# Altium integrated library Wings_SMD_Breakout.IntLib: 30 symbols
Pins are listed as number, name and electrical type; pins without a type are passive.

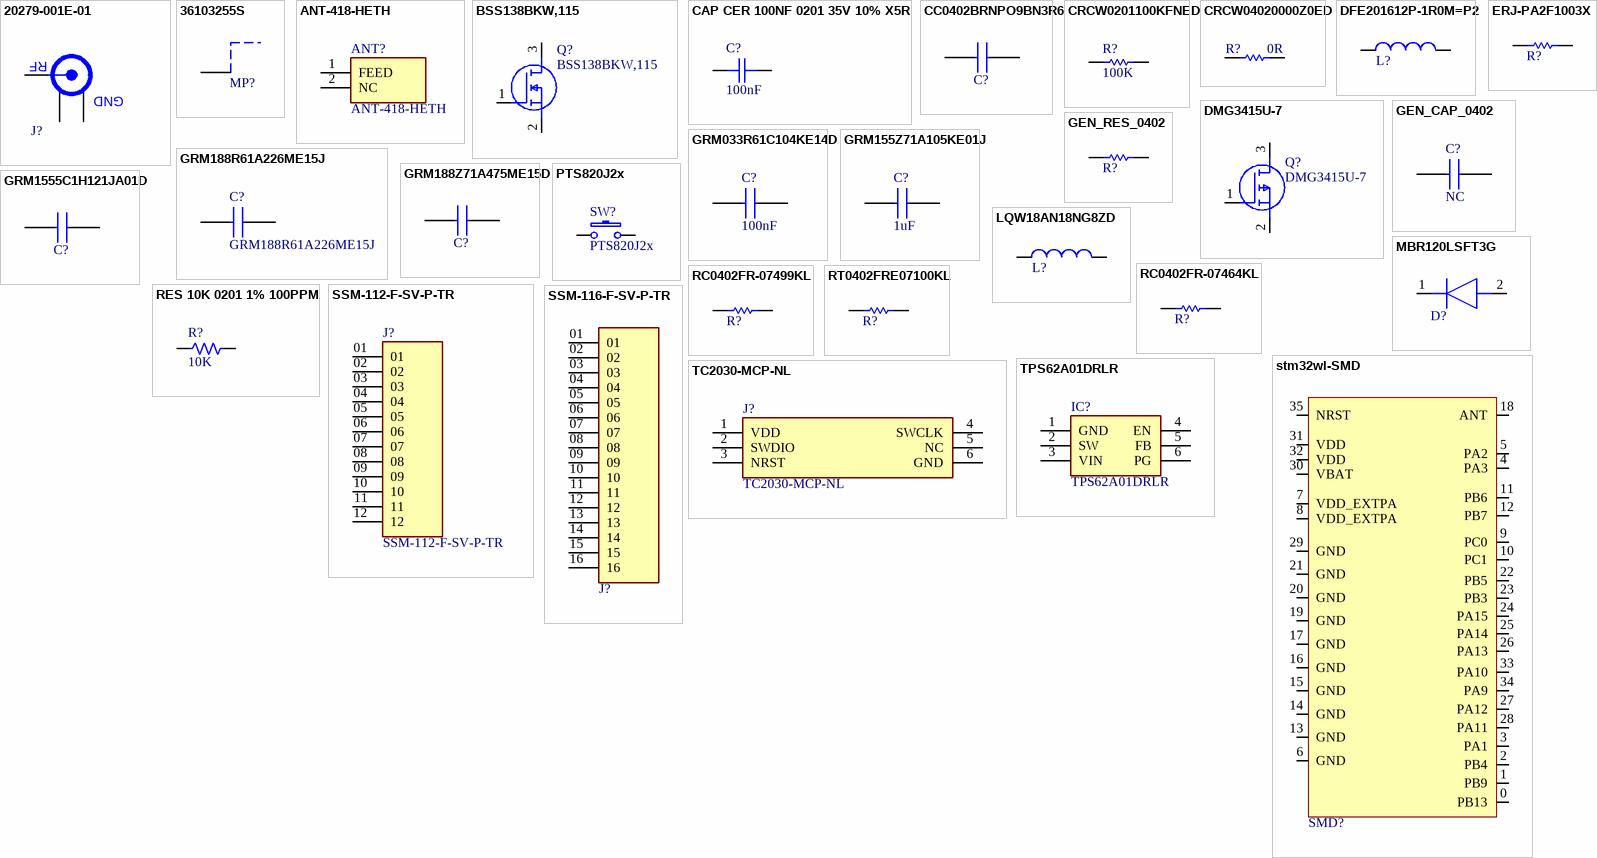
[diagram p0: symbols 20279-001E-01 to TPS62A01DRLR]

## 20279-001E-01
designator J?  (value not drawn)
CON IPEX MHF SMT RECEPTACLE RF DC - 6GHZ VSWR: 1.3 max. at 0.1-3GHz; VSWR: 1.5 max. at 3-6GHz; Manufacturer: Taoglas; Manufacturers Part Number: RECE-20279-001E-01; Size: MHF; Frequency Range: DC - 6GHz; Supplier 1: Digi-Key; Supplier 2: Mouser; Supplier Part Number 1: 931-1107-1-ND; Supplier Part Number 2: 960-RECE20279001E01; Distributor 1: EBV; Distributor 2: Future Electronics
footprint MHF SMT REC
pins: 1 RF, 2 GND, 3 GND

## 36103255S
designator MP?  (value not drawn)
WE-SHC Shielding Cabinet, SMT Frame, Tin Plated, Tray, 25x25x3mm; Manufacturer: Wurth Elektronik; Base Material: Steel; ComponentLink1Description: Website Link; ComponentLink1URL: https://www.we-online.com/redexpert/article/36103255S?ad; ComponentLink2Description: Datasheet Link; ComponentLink2URL: https://www.we-online.com/redexpert/spec/36103255S?ad; Manufacturer Part Number: 36103255S; Category: EMC Shielding; Match Code: WE-SHC; Mount: Surface Mount; Operating Temperature Max: 125°C; Operating Temperature Min: -40°C; Packaging: Tray; Length: 25mm; Width: 25mm; Height: 3mm; Plating: Tin Plated; Type: SMT Frame
footprint 36103255S (Shielding Cabinet, SMD Frame, 25.4x25.4mm)
pins: 1

## ANT-418-HETH
designator ANT?
Antennes Through Hole 1/4 Wave Helical 418MHz; Manufacturer_Name: Linx Technologies; Datasheet Link: https://componentsearchengine.com/Datasheets/1/ANT-418-HETH.pdf; Height: 8.89mm; Manufacturer_Part_Number: ANT-418-HETH; Mouser Part Number: 712-ANT-418-HETH; Mouser Price/Stock: https://www.mouser.co.uk/ProductDetail/Linx-Technologies/ANT-418-HETH?qs=K5ta8V%252BWhtaRiLxNTMG67g%3D%3D
footprint ANT418HETH
pins: 1 FEED, 2 NC

## BSS138BKW,115
designator Q?
MOSFET (N-Channel); Manufacturer_Name: Nexperia; Datasheet Link: https://assets.nexperia.com/documents/data-sheet/BSS138BKW.pdf; Height: 1.1mm; Manufacturer_Part_Number: BSS138BKW,115; Mouser Part Number: 771-BSS138BKW115; Mouser Price/Stock: https://www.mouser.co.uk/ProductDetail/Nexperia/BSS138BKW115?qs=A1cBxND5mHJ1Grk7RQmcgg%3D%3D; Arrow Part Number: BSS138BKW,115; Arrow Price/Stock: https://www.arrow.com/en/products/bss138bkw115/nexperia?region=nac
footprint SOT65P210X110-3N
pins: 1 G, 2 S, 3 D

## CAP CER 100NF 0201 35V 10% X5R
designator C?, comment value 100nF  (hidden comment: 100NF 0201 35V 10% X5R)
CAP CER 100NF 0201 35V 10% X5R; Manufacturer: Murata; Manufacturers Part Number: GRM033R6YA104KE14D; Tolerance: 10%; Size: 0201; Dielectric: X5R; Supplier 1: Mouser; Supplier 2: Digi-Key; Supplier Part Number 1: 81-GRM33R6YA104KE14D; Supplier Part Number 2: 490-10430-1-ND
footprint CAP0201L
pins: 1 "Generic Resistor", 2 "Generic Resistor"

## CC0402BRNPO9BN3R6
designator C?  (value not drawn)
Multilayer Ceramic Capacitors MLCC - SMD/SMT 50 V 3.6pF C0G 0402 Tol 0.1pF; Manufacturer_Name: KEMET; Datasheet Link: https://www.yageo.com/upload/media/product/productsearch/datasheet/mlcc/UPY-GP_NP0_16V-to-50V_18.pdf; Height: 0.55mm; Manufacturer_Part_Number: CC0402BRNPO9BN3R6; Mouser Part Number: 603-CC402BRNPO9BN3R6; Mouser Price/Stock: https://www.mouser.co.uk/ProductDetail/Yageo/CC0402BRNPO9BN3R6?qs=57cj7OiSijl%2FHGuB4N4%2Few%3D%3D; Arrow Part Number: CC0402BRNPO9BN3R6; Arrow Price/Stock: https://www.arrow.com/en/products/cc0402brnpo9bn3r6/yageo
footprint CAPC1005X55N
pins: 1, 2

## CRCW0201100KFNED
designator R?, comment 100K
Resistors Thick Film  - SMD 1/20watt 100Kohms 1% 200ppm; Manufacturer_Name: Vishay; Manufacturer_Part_Number: CRCW0201100KFNED; Value: 100KR; Datasheet Link: http://www.vishay.com/docs/20035/dcrcwe3.pdf; Height: 0.28mm; Mouser Part Number: 71-CRCW0201100KFNED; Mouser Price/Stock: https://www.mouser.co.uk/ProductDetail/Vishay-Dale/CRCW0201100KFNED?qs=IQLUlsvFoXuZOEgCEo70BA%3D%3D; Arrow Part Number: CRCW0201100KFNED; Arrow Price/Stock: https://www.arrow.com/en/products/crcw0201100kfned/vishay?region=nac
footprint RESC0603X28N
pins: 1, 2

## CRCW04020000Z0ED
designator R?, comment 0R
Resistors Thick Film  - SMD 0402 0.063 W 0 Ohm Jumper; Manufacturer 1: Vishay; Manufacturer Part Number 1: CRCW04020000Z0ED; Description 1: CRCW Series 0402 0.063 W 0 Ohm Jumper Surface Mount Thick Film Chip Resistor; Category 1: Chip SMD Resistors; Resistance: 0mR; Power Rating: 63mW; Voltage Rating: 50V; Temperature Coefficient: 100ppm/°C; Tolerance: 5%; Supplier 1: Digi-Key; Supplier Part Number 1: 541-0.0JCT-ND; RoHS 1: Yes; Stock 1: 170588; Pricing 1: 1=0,1, 10=0,029, 25=0,0208, 50=0,016, 100=0,0118, 250=0,009, 500=0,0072, 1000=0,0053, 5000=0,0038 (USD); Case/Package: 0402; Case Code (Imperial): 0402; Case Code (Metric): 1005; Contact Plating: Tin; Size Code: 0402; Weight: 2.3E-05oz; Min Operating Temperature: -55°C; Max Operating Temperature: 155°C; Packaging: Tape and Reel; Series: CRCW; Number of Terminations: 2; Max Power Dissipation: 63mW; Termination: SMD/SMT; Package Quantity: 10000; Resistor Type: Thick Film; Voltage Rating (DC): 50V; Features: Automotive AEC-Q200; Construction: Rectangular; Length: 1mm; Width: 0.5mm; Height: 0.35mm; Depth: 0.5mm; Ratings: AEC-Q200; Radiation Hardening: No; RoHS Compliant: Yes; Lead Free: Lead Free; Reach SVHC Compliant: Unknown; Military Standard: Not; ComponentLink1URL: https://datasheet.ciiva.com/3255/dcrcwe3-3255944.pdf?src-supplier=Avnet; ComponentLink1Description: https://datasheet.ciiva.com/3255/dcrcwe3-3255944.pdf?src-supplier=Avnet; ComponentLink2URL: https://datasheet.ciiva.com/3255/dcrcwe3-3255945.pdf?src-supplier=Avnet; ComponentLink2Description: https://datasheet.ciiva.com/3255/dcrcwe3-3255945.pdf?src-supplier=Avnet; ComponentLink3URL: https://datasheet.ciiva.com/2461/dcrcwe3-2461962.pdf?src-supplier=Digi-Key; ComponentLink3Description: https://datasheet.ciiva.com/2461/dcrcwe3-2461962.pdf?src-supplier=Digi-Key; ComponentLink4URL: https://datasheet.ciiva.com/7841/1720486-7841802.pdf?src-supplier=Element14; ComponentLink4Description: https://datasheet.ciiva.com/7841/1720486-7841802.pdf?src-supplier=Element14; ComponentLink5URL: https://datasheet.ciiva.com/2461/dcrcwe3-2461964.pdf?src-supplier=Digi-Key; ComponentLink5Description: https://datasheet.ciiva.com/2461/dcrcwe3-2461964.pdf?src-supplier=Digi-Key; ComponentLink6URL: https://datasheet.ciiva.com/7841/1697337-7841468.pdf?src-supplier=Element14; ComponentLink6Description: https://datasheet.ciiva.com/7841/1697337-7841468.pdf?src-supplier=Element14; ComponentLink7URL: https://datasheet.ciiva.com/16761/70200976-16761309.pdf?src-supplier=Allied+Electronics; ComponentLink7Description: https://datasheet.ciiva.com/16761/70200976-16761309.pdf?src-supplier=Allied+Electronics; ComponentLink8URL: https://datasheet.ciiva.com/26311/fld-crcw-e3-data-en-26311550.pdf?src-supplier=Distrelec; ComponentLink8Description: https://datasheet.ciiva.com/26311/fld-crcw-e3-data-en-26311550.pdf?src-supplier=Distrelec
footprint RESC1005X40N
pins: 1, 2

## DFE201612P-1R0M=P2
designator L?  (value not drawn)
Inductor Power Shielded Wirewound 1uH 20% 1MHz Metal 2.7A 0.054Ohm DCR 0806 T/R; Manufacturer: Murata; Core Material: Ferrite; Current Rating: 3.3A; DC Resistance (DCR): 54mR; Supplier 1: Arrow Electronics; Manufacturer Part Number: DFE201612P-1R0M=P2; RoHS: Yes; Category: Fixed Inductors; Stock 1: 437; Pricing 1: 1=0,3131, 10=0,2081, 25=0,206, 100=0,1586, 250=0,1571 (USD); Mount: Surface Mount; Case/Package: 0806; Case Code (Metric): 2016; Case Code (Imperial): 0806; Min Operating Temperature: -40°C; Max Operating Temperature: 125°C; Inductance: 1uH; Packaging: Cut Tape; Shielding: Shielded; Test Frequency: 1MHz; Max DC Current: 2.7A; Tolerance: 20%; Series: DFE201612P; Length: 0.079inch; Width: 0.063inch; Height - Seated (Max): 0.039inch; Depth: 1.6mm; RoHS Compliant: Yes; ComponentLink1URL: https://search.murata.co.jp/Ceramy/image/img/P02/J(E)TE243A-0033.pdf?src-supplier=Digi-Key; ComponentLink1Description: https://search.murata.co.jp/Ceramy/image/img/P02/J(E)TE243A-0033.pdf?src-supplier=Digi-Key; ComponentLink2URL: http://www.toko.co.jp/products/pdf/inductors/dfe201612p.pdf?src-supplier=Digi-Key; ComponentLink2Description: http://www.toko.co.jp/products/pdf/inductors/dfe201612p.pdf?src-supplier=Digi-Key; ComponentLink3URL: http://www.toko.co.jp/products/pdf/inductors/dfe201612p.pdf?src-supplier=Avnet; ComponentLink3Description: http://www.toko.co.jp/products/pdf/inductors/dfe201612p.pdf?src-supplier=Avnet
footprint 1286ASH1R0MP2
pins: 1, 2

## DMG3415U-7
designator Q?
MOSFET (P-Channel); Manufacturer_Name: Diodes Inc.; Datasheet Link: https://datasheet.datasheetarchive.com/originals/distributors/Datasheets-DGA23/1579852.pdf; Height: 1.2mm; Manufacturer_Part_Number: DMG3415U-7; Mouser Part Number: 621-DMG3415U-7; Mouser Price/Stock: https://www.mouser.co.uk/ProductDetail/Diodes-Incorporated/DMG3415U-7?qs=oUsD4qhOtFwqFLkI6WCRAA%3D%3D; Arrow Part Number: DMG3415U-7; Arrow Price/Stock: https://www.arrow.com/en/products/dmg3415u-7/diodes-incorporated?region=nac
footprint SOT96P240X120-3N
pins: 1 G, 2 S, 3 D

## ERJ-PA2F1003X
designator R?  (value not drawn)
Resistors Thick Film - SMD HP02 (0402) 1/5W 1% 100kR T/R-10000; Manufacturer_Name: Panasonic; Datasheet Link: http://industrial.panasonic.com/cdbs/www-data/pdf/RDO0000/AOA0000C331.pdf; Height: 0.4mm; Manufacturer_Part_Number: ERJ-PA2F1003X; Mouser Part Number: 667-ERJ-PA2F1003X; Mouser Price/Stock: https://www.mouser.co.uk/ProductDetail/Panasonic/ERJ-PA2F1003X?qs=h9NfwcE6J0KLQ3ykWSuIfQ%3D%3D
footprint ERJPA2_(0402)
pins: 1, 2

## GEN_CAP_0402
designator C?, comment NC
Generic capacitor; ComponentLink1Description: Mouser; ComponentLink1URL: https://www.mouser.fr/ProductDetail/Murata-Electronics/GCM1555C1H4R7CA16D?qs=jDWTHf1mkXZYnVNtgyfFgw%3D%3D
footprint CAPC1005X55N
pins: 1, 2

## GEN_RES_0402
designator R?  (value not drawn)
Generic Resistor; Manufacturer 1: Yageo; Manufacturer Part Number 1: RT0402DRE07200RL; Description 1: Res High Precision Thick Film 0402 200 Ohm 0.5% 1/16W ±50ppm/°C Molded SMD Paper T/R; Category 1: Chip SMD Resistors; Tolerance: 0.5%; Temperature Coefficient: 50ppm/°C; Max Power Dissipation: 63mW; Voltage Rating (DC): 50V; Supplier 1: Digi-Key; Supplier Part Number 1: 311-2253-1-ND; RoHS 1: Yes; Stock 1: 18310; Pricing 1: 1=0,18, 10=0,151, 100=0,0592, 500=0,0358, 1000=0,02478, 2500=0,02271, 5000=0,02065 (USD); Case/Package: 0402; Case Code (Metric): 1005; Case Code (Imperial): 0402; Min Operating Temperature: -55°C; Max Operating Temperature: 155°C; Packaging: Cut Tape; Series: RT; Package Quantity: 10000; Number of Terminations: 2; Length: 0.039inch; Width: 0.02inch; Height: 0.014inch; RoHS Compliant: Yes; Lead Free: Lead Free; ComponentLink1URL: https://datasheet.ciiva.com/2572/pyu-rt-1-to-0-05-rohs-l-5-2572248.pdf?src-supplier=Digi-Key; ComponentLink1Description: https://datasheet.ciiva.com/2572/pyu-rt-1-to-0-05-rohs-l-5-2572248.pdf?src-supplier=Digi-Key
footprint RESC1005X40N
pins: 1, 2

## GRM033R61C104KE14D
designator C?  value 100nF  (hidden comment: GRM033R61C104KE14D)
Multilayer Ceramic Capacitors MLCC - SMD/SMT 0201 0.1uF 16volts X5R 10%; Manufacturer_Name: Murata Electronics; Manufacturer 1: Murata; Geometry.Height: 0.33mm; Description 1: 0201 16 V 0.1 uF ±10% Tolerance X5R Dielectric Multilayer Ceramic Chip Capacitor; Voltage Rating (DC): 16V; Mouser Part Number: 81-GRM033R61C104KE4D; Mouser Price/Stock: https://www.mouser.co.uk/ProductDetail/Murata-Electronics/GRM033R61C104KE14D?qs=jHkklCh7amhDvY8zUHp0eA%3D%3D; Manufacturer_Part_Number: GRM033R61C104KE14D; Datasheet Link: http://www.murata.com/~/media/webrenewal/support/library/catalog/products/capacitor/mlcc/c02e.pdf; Supplier 1: Mouser; Supplier Part Number 1: 81-GRM033R61C104KE4D; Manufacturer Part Number 1: GRM033R61C104KE14D; RoHS 1: Yes; Category 1: Ceramic Capacitors; Stock 1: 2429607; Pricing 1: 1=0,1, 10=0,019, 50=0,019, 100=0,011, 1000=0,009, 10000=0,007 (USD); Mount: Surface Mount; Case/Package: 0201; Case Code (Imperial): 0201; Case Code (Metric): 0603; Min Operating Temperature: -55°C; Max Operating Temperature: 85°C; Capacitance: 100nF; Tolerance: 10%; Dielectric: X5R; Series: GRM; Voltage Rating: 16V; Packaging: Tape and Reel; Length: 600um; Width: 300um; Thickness: 300um; RoHS Compliant: Yes; ComponentLink1URL: http://www.farnell.com/datasheets/2735408.pdf?src-supplier=Farnell; ComponentLink1Description: http://www.farnell.com/datasheets/2735408.pdf?src-supplier=Farnell; ComponentLink2URL: https://search.murata.co.jp/Ceramy/image/img/A01X/G101/ENG/GRM033R61C104KE14-01.pdf?src-supplier=Digi-Key; ComponentLink2Description: https://search.murata.co.jp/Ceramy/image/img/A01X/G101/ENG/GRM033R61C104KE14-01.pdf?src-supplier=Digi-Key; ComponentLink3URL: http://www.farnell.com/datasheets/2735408.pdf?src-supplier=Newark; ComponentLink3Description: http://www.farnell.com/datasheets/2735408.pdf?src-supplier=Newark; ComponentLink4URL: http://search.murata.co.jp/Ceramy/image/img/A01X/G101/ENG/GRM033R61C104KE14-01.pdf?src-supplier=Digi-Key; ComponentLink4Description: http://search.murata.co.jp/Ceramy/image/img/A01X/G101/ENG/GRM033R61C104KE14-01.pdf?src-supplier=Digi-Key
footprint CAPC0603X33N
pins: 1, 2

## GRM155Z71A105KE01J
designator C?, comment 1uF
Multilayer Ceramic Capacitors MLCC - SMD/SMT 1.0UF 10V 10% 0402; Manufacturer_Name: Murata Electronics; Manufacturer_Part_Number: GRM155Z71A105KE01J; Manufacturer 1: Murata; Description 1: Multi-Layer Ceramic Capacitor 1uF X7R 10% 0402 Paper T/R; Datasheet Link: http://www.murata.com/~/media/webrenewal/support/library/catalog/products/capacitor/mlcc/c02e.pdf; Height: 0.55mm; Mouser Part Number: 81-GRM155Z71A105KE1J; Mouser Price/Stock: https://www.mouser.co.uk/ProductDetail/Murata-Electronics/GRM155Z71A105KE01J?qs=xZ%2FP%252Ba9zWqaF%2FmyRgV0iOA%3D%3D; Arrow Part Number: GRM155Z71A105KE01J; Arrow Price/Stock: https://www.arrow.com/en/products/grm155z71a105ke01j/murata-manufacturing?region=nac; Supplier 1: Mouser; Supplier Part Number 1: 81-GRM155Z71A105KE1J; Manufacturer Part Number 1: GRM155Z71A105KE01J; RoHS 1: Yes; Category 1: Ceramic Capacitors; Stock 1: 804340; Pricing 1: 1=0,1, 10=0,069, 50=0,069, 100=0,031, 1000=0,018, 10000=0,013 (USD)
footprint CAPC1005X55N
pins: 1, 2

## GRM188R61A226ME15J
designator C?
Multilayer Ceramic Capacitors MLCC - SMD/SMT 22 uF 10 VDC 20% 0603 X5R; Manufacturer_Name: Murata Electronics; Manufacturer: Murata; Voltage Rating (DC): 10V; Capacitance: 22uF; Datasheet Link: http://componentsearchengine.com/Datasheets/1/GRM188R61A226ME15J.pdf; Height: 0.9mm; Manufacturer_Part_Number: GRM188R61A226ME15J; Mouser Part Number: 81-GRM188R61A226ME5J; Mouser Price/Stock: https://www.mouser.co.uk/ProductDetail/Murata-Electronics/GRM188R61A226ME15J?qs=QzBtWTOodeUZmjqoH8BLhQ%3D%3D; Arrow Part Number: GRM188R61A226ME15J; Arrow Price/Stock: https://www.arrow.com/en/products/grm188r61a226me15j/murata-manufacturing?region=nac; Supplier 1: Arrow Electronics; Manufacturer Part Number: GRM188R61A226ME15J; RoHS: Yes; Category: Ceramic Capacitors; Stock 1: 3913; Pricing 1: 1=0,1632, 10=0,0758, 25=0,075, 100=0,0444, 250=0,0422, 500=0,0395, 1000=0,0349, 3000=0,0314 (USD); Mount: Surface Mount; Case/Package: 0603; Min Operating Temperature: -55°C; Max Operating Temperature: 85°C; Dielectric: X5R; Tolerance: 20%; Series: GRM; Voltage Rating: 10V; Length: 1.6mm; Width: 800um; Thickness: 800um; RoHS Compliant: Yes; ComponentLink1URL: http://search.murata.co.jp/Ceramy/image/img/A01X/G101/ENG/GRM188R61A226ME15-01.pdf?src-supplier=Digi-Key; ComponentLink1Description: http://search.murata.co.jp/Ceramy/image/img/A01X/G101/ENG/GRM188R61A226ME15-01.pdf?src-supplier=Digi-Key; Supplier Part Number 1: GRM188R61A226ME15J
footprint CAPC1608X90N
pins: 1, 2

## GRM188Z71A475ME15D
designator C?  (value not drawn)
Cap, 4.7Uf, 10V, Mlcc, 0603 Rohs Compliant: Yes; Manufacturer_Name: Murata Electronics; Manufacturer: Murata; Datasheet Link: http://componentsearchengine.com/Datasheets/1/GRM188Z71A475ME15D.pdf; Height: 0.9mm; Manufacturer_Part_Number: GRM188Z71A475ME15D; Mouser Part Number: 81-GRM188Z71A475ME5D; Mouser Price/Stock: https://www.mouser.co.uk/ProductDetail/Murata-Electronics/GRM188Z71A475ME15D?qs=Ey7%2FXF42M3f7ZZnF1u%2FoMQ%3D%3D; Supplier 1: Digi-Key; Manufacturer Part Number: GRM188Z71A475ME15D; RoHS: Yes; Category: Ceramic Capacitors; Stock 1: 6936; Pricing 1: 1=0,2, 10=0,139, 50=0,0928, 100=0,0789, 500=0,0557, 1000=0,04873 (USD); Case/Package: 0603
footprint CAPC1608X90N
pins: 1, 2

## GRM1555C1H121JA01D
designator C?  (value not drawn)
Multilayer Ceramic Capacitors MLCC - SMD/SMT 120 pF 50 VDC 5% 0402 C0G (NP0); Manufacturer_Name: Murata Electronics; Manufacturer: Murata; Datasheet Link: http://www.murata.com/~/media/webrenewal/support/library/catalog/products/capacitor/mlcc/c02e.pdf; Height: 0.55mm; Manufacturer_Part_Number: GRM1555C1H121JA01D; Mouser Part Number: 81-GRM1555C1H121JA01; Mouser Price/Stock: https://www.mouser.co.uk/ProductDetail/Murata-Electronics/GRM1555C1H121JA01D?qs=%2FOTtAhf8R8aYiiN7oJJViQ%3D%3D; Arrow Part Number: GRM1555C1H121JA01D; Arrow Price/Stock: https://www.arrow.com/en/products/grm1555c1h121ja01d/murata-manufacturing?region=nac; Supplier 1: Arrow Electronics; Manufacturer Part Number: GRM1555C1H121JA01D; RoHS: Yes; Category: Ceramic Capacitors; Stock 1: 100000; Pricing 1: 10000=0,0097, 20000=0,0083, 50000=0,0082, 100000=0,0071, 250000=0,0069 (USD); ComponentLink1URL: https://datasheet.ciiva.com/5413/product-5413480.pdf?src-supplier=Mouser; ComponentLink1Description: https://datasheet.ciiva.com/5413/product-5413480.pdf?src-supplier=Mouser; ComponentLink2URL: https://datasheet.ciiva.com/18184/getdatasheetpartid-153048-18184189.pdf?src-supplier=Verical; ComponentLink2Description: https://datasheet.ciiva.com/18184/getdatasheetpartid-153048-18184189.pdf?src-supplier=Verical; ComponentLink3URL: https://datasheet.ciiva.com/29200/453593-da-01-en-vs-kondensator-0402-29200134.pdf?src-supplier=Conrad; ComponentLink3Description: https://datasheet.ciiva.com/29200/453593-da-01-en-vs-kondensator-0402-29200134.pdf?src-supplier=Conrad; ComponentLink4URL: https://datasheet.ciiva.com/14116/grmseries-tc-hitype-eng-14116921.pdf?src-supplier=Distrelec; ComponentLink4Description: https://datasheet.ciiva.com/14116/grmseries-tc-hitype-eng-14116921.pdf?src-supplier=Distrelec; ComponentLink5URL: https://datasheet.ciiva.com/14116/grmseries-tc-hitype-eng-14116860.pdf?src-supplier=Distrelec; ComponentLink5Description: https://datasheet.ciiva.com/14116/grmseries-tc-hitype-eng-14116860.pdf?src-supplier=Distrelec; ComponentLink6URL: https://datasheet.ciiva.com/131/partnumbering-e-01-131099.pdf?src-supplier=Digi-Key; ComponentLink6Description: https://datasheet.ciiva.com/131/partnumbering-e-01-131099.pdf?src-supplier=Digi-Key; ComponentLink7URL: https://datasheet.ciiva.com/131/partnumbering-e-01-131100.pdf?src-supplier=Digi-Key; ComponentLink7Description: https://datasheet.ciiva.com/131/partnumbering-e-01-131100.pdf?src-supplier=Digi-Key; ComponentLink8URL: https://datasheet.ciiva.com/131/partnumbering-e-01-131101.pdf?src-supplier=Digi-Key; ComponentLink8Description: https://datasheet.ciiva.com/131/partnumbering-e-01-131101.pdf?src-supplier=Digi-Key; ComponentLink9URL: https://datasheet.ciiva.com/2989/product-2989291.pdf?src-supplier=Avnet; ComponentLink9Description: https://datasheet.ciiva.com/2989/product-2989291.pdf?src-supplier=Avnet
footprint CAPC1005X55N
pins: 1, 2

## LQW18AN18NG8ZD
designator L?  (value not drawn)
Inductor Wirewound , 18 nH, 75 Milliohm, ± 2%, 1.4 A, 0603 [1608 Metric]
footprint LQW18AN10NG80D
pins: 1, 2

## MBR120LSFT3G
designator D?  (value not drawn)
Diode; Manufacturer_Name: onsemi; Datasheet Link: http://www.onsemi.com/pub/Collateral/MBR120LSFT1-D.PDF; Height: 0.98mm; Manufacturer_Part_Number: MBR120LSFT3G; Mouser Part Number: 863-MBR120LSFT3G; Mouser Price/Stock: https://www.mouser.co.uk/ProductDetail/onsemi/MBR120LSFT3G?qs=3JMERSakebrl0QzFyBgvHg%3D%3D; Arrow Part Number: MBR120LSFT3G; Arrow Price/Stock: https://www.arrow.com/en/products/mbr120lsft3g/on-semiconductor?region=nac
footprint SODFL3616X98N
pins: 1 K, 2 A

## PTS820J2x
designator SW?
SW SPST PB 50MA 12V SMT CK variant; Manufacturer: C&K; Manufacturers Part Number: PTS820J2xM SMTR LFS; Supplier 1: Mouser; Supplier 2: Digi-Key; Supplier Part Number 1: 611-PTS820J25MSMTR; Supplier Part Number 2: CKN10505CT-ND; Distributor 1: EBV; Distributor 2: Future Electronics; Value: PTS820J2x
footprint TL1015 (SM Push Button Switch)
pins: 1, 2, G1 hidden to GND, G2 hidden to GND, G3 hidden to GND, G4 hidden to GND

## RC0402FR-07464KL
designator R?  (value not drawn)
Thick Film Resistors - SMD 464 kOhms 62.5 mW 0402 1%; Manufacturer_Name: KEMET; Datasheet Link: http://www.yageo.com/documents/recent/PYu-RC0402_51_RoHS_L_6_r.pdf; Height: 0.4mm; Manufacturer_Part_Number: RC0402FR-07464KL
footprint RESC1005X40N
pins: 1, 2

## RC0402FR-07499KL
designator R?  (value not drawn)
Thick Film Resistors - SMD 499K Ohm 1% 63 mW 0402 1%; Manufacturer: Yageo; Supplier 1: Future Electronics; Manufacturer Part Number: RC0402FR-07499KL; RoHS: Yes; Category: Chip SMD Resistors; Stock 1: 1780000; Pricing 1: 10000=0,001, 50000=0,001, 300000=0,0009, 1000000=0,0009, 3000000=0,0008 (USD); ComponentLink1URL: https://datasheet.ciiva.com/15189/getdatasheetpartid-323686-15189469.pdf?src-supplier=Verical; ComponentLink1Description: https://datasheet.ciiva.com/15189/getdatasheetpartid-323686-15189469.pdf?src-supplier=Verical; ComponentLink2URL: https://datasheet.ciiva.com/2491/pyu-r-int-thick-7-2491264.pdf?src-supplier=Digi-Key; ComponentLink2Description: https://datasheet.ciiva.com/2491/pyu-r-int-thick-7-2491264.pdf?src-supplier=Digi-Key; ComponentLink3URL: https://datasheet.ciiva.com/2491/pyu-r-int-thick-7-2491265.pdf?src-supplier=Digi-Key; ComponentLink3Description: https://datasheet.ciiva.com/2491/pyu-r-int-thick-7-2491265.pdf?src-supplier=Digi-Key; ComponentLink4URL: https://datasheet.ciiva.com/2491/pyu-r-int-thick-7-2491266.pdf?src-supplier=Digi-Key; ComponentLink4Description: https://datasheet.ciiva.com/2491/pyu-r-int-thick-7-2491266.pdf?src-supplier=Digi-Key; ComponentLink5URL: https://datasheet.ciiva.com/5558/pyu-rc0402-51-rohs-l-6-r-5558345.pdf?src-supplier=Mouser; ComponentLink5Description: https://datasheet.ciiva.com/5558/pyu-rc0402-51-rohs-l-6-r-5558345.pdf?src-supplier=Mouser
footprint RESC1005X40N
pins: 1, 2

## RES 10K 0201 1% 100PPM
designator R?, comment value 10K  (hidden comment: 10K 0201 1% 100PPM)
RES 10K 0201 1% 100PPM; PPM: 100; Manufacturer: *; Manufacturers Part Number: *; Tolerance: 1%; Size: 0201; Supplier 1: Mouser; Supplier 2: Digi-Key; Supplier Part Number 1: 71-CRCW020110K0FKED; Supplier Part Number 2: 541-10.0KAABCT-ND
footprint RES0201N
footprint RES0201L
pins: 1 "Generic Resistor", 2 "Generic Resistor"

## RT0402FRE07100KL
designator R?  (value not drawn)
RES SMD 100K OHM 1% 1/16W 0402; Manufacturer: Yageo; Supplier 1: Future Electronics; Manufacturer Part Number: RT0402FRE07100KL; RoHS: Yes; Category: Chip SMD Resistors; Stock 1: 10000; Pricing 1: 10000=0,0036, 40000=0,0034, 150000=0,0032, 250000=0,0031, 500000=0,003 (USD); ComponentLink1URL: https://datasheet.ciiva.com/8887/pyu-rt-1-to-0-05-rohs-l-4-8887887.pdf?src-supplier=Avnet; ComponentLink1Description: https://datasheet.ciiva.com/8887/pyu-rt-1-to-0-05-rohs-l-4-8887887.pdf?src-supplier=Avnet; ComponentLink2URL: https://datasheet.ciiva.com/8887/pyu-rt-1-to-0-05-rohs-l-4-8887978.pdf?src-supplier=Avnet; ComponentLink2Description: https://datasheet.ciiva.com/8887/pyu-rt-1-to-0-05-rohs-l-4-8887978.pdf?src-supplier=Avnet; ComponentLink3URL: https://datasheet.ciiva.com/12836/pyu-rt-1-to-0-05-rohs-l-4-12836651.pdf?src-supplier=Mouser; ComponentLink3Description: https://datasheet.ciiva.com/12836/pyu-rt-1-to-0-05-rohs-l-4-12836651.pdf?src-supplier=Mouser
footprint RESC1005X40N
pins: 1, 2

## SSM-112-F-SV-P-TR
designator J?
Headers & Wire Housings Surface Mount PCB Socket Strips, .100" pitch
footprint SAMTEC_SSM-112-F-SV-P-TR
pins: 01, 02, 03, 04, 05, 06, 07, 08, 09, 10, 11, 12

## SSM-116-F-SV-P-TR
designator J?  (value not drawn)
Headers & Wire Housings Surface Mount PCB Socket Strips, .100" pitch; Supplier 1: Digi-Key; Supplier Part Number 1: SSM-116-F-SV-P-ND; Supplier 2: Digi-Key; Supplier Part Number 2: SSM-116-F-SV-ND
footprint SAMTEC_SSM-116-F-SV-P-TR
pins: 01, 02, 03, 04, 05, 06, 07, 08, 09, 10, 11, 12, 13, 14, 15, 16

## stm32wl-SMD
designator SMD?  (value not drawn)
footprint stm32wl-SMD_shortLegs
pins: 0 PB13, 1 PB9, 2 PB4, 3 PA1, 4 PA3, 5 PA2, 6 GND, 7 VDD_EXTPA, 8 VDD_EXTPA, 9 PC0, 10 PC1, 11 PB6, 12 PB7, 13 GND, 14 GND, 15 GND, 16 GND, 17 GND, 18 ANT, 19 GND, 20 GND, 21 GND, 22 PB5, 23 PB3, 24 PA15, 25 PA14, 26 PA13, 27 PA12, 28 PA11, 29 GND, 30 VBAT, 31 VDD, 32 VDD, 33 PA10, 34 PA9, 35 NRST

## TC2030-MCP-NL
designator J?
Programmer Accessories Tag-Connect In-Circt Cable; Manufacturer_Name: Microchip; Datasheet Link: http://ww1.microchip.com/downloads/en/DeviceDoc/TC2030-MCP-NL_PCB_Footprint_RevD.pdf; Manufacturer_Part_Number: TC2030-MCP-NL; Mouser Part Number: 579-TC2030-MCP-NL; Mouser Price/Stock: https://www.mouser.co.uk/ProductDetail/Microchip-Technology/TC2030-MCP-NL?qs=vpV3rcoeaPNaPItFBtR60A%3D%3D; Arrow Part Number: TC2030-MCP-NL; Arrow Price/Stock: https://www.arrow.com/en/products/tc2030-mcp-nl/microchip-technology?region=nac
footprint TC2030-MCP-NL
pins: 1 VDD, 2 SWDIO, 3 NRST, 4 SWCLK, 5 NC, 6 GND

## TPS62A01DRLR
designator IC?
Integrated Circuit; Manufacturer_Name: Texas Instruments; Datasheet Link: https://www.arrow.com/en/products/tps62a01drlr/texas-instruments?region=nac; Height: 0.6mm; Manufacturer_Part_Number: TPS62A01DRLR; Mouser Part Number: 595-TPS62A01DRLR; Mouser Price/Stock: https://www.mouser.co.uk/ProductDetail/Texas-Instruments/TPS62A01DRLR?qs=Znm5pLBrcALcIfh%2FYrJRtw%3D%3D; Arrow Part Number: TPS62A01DRLR; Arrow Price/Stock: https://www.arrow.com/en/products/tps62a01drlr/texas-instruments?region=nac
footprint SOTFL50P160X60-6N
pins: 1 GND, 2 SW, 3 VIN, 4 EN, 5 FB, 6 PG